# Altium footprint library Cypress.PcbLib: 2 footprints
Each footprint in its own frame and in the unit in brackets; x right, y up, seen from the top. Pads: shape width x height; smd on the part's side, far side on the other; paste and mask are expansions set on the pad; w line width, h text height; cw(c..) or ccw(c..) is an arc to the next point about the centre after c.
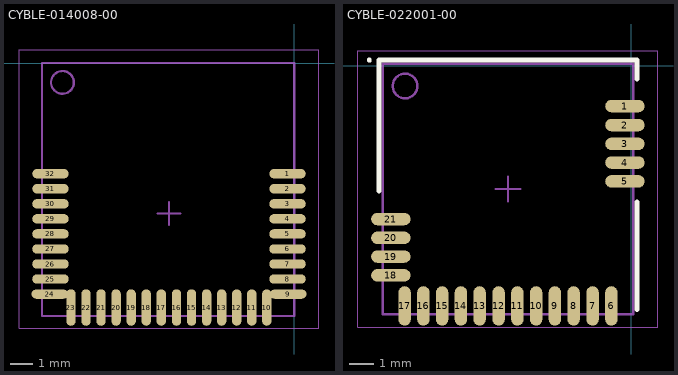
[diagram p0: the footprints below, top view; thin cyan lines are the x and y axes]

## CYBLE-014008-00 [mm] "Cypress Bluetooth Module, CYBLE"
height 1.8
pads (32):
  oval 1.6x0.41 smd: 1(-0.3,-4.855) 2(-0.3,-5.515) 3(-0.3,-6.175) 4(-0.3,-6.835) 5(-0.3,-7.495) 6(-0.3,-8.155) 7(-0.3,-8.815) 8(-0.3,-9.475) 9(-0.27,-10.135) 24(-10.73,-10.135) 25(-10.7,-9.475) 26(-10.7,-8.815) 27(-10.7,-8.155) 28(-10.7,-7.495) 29(-10.7,-6.835) 30(-10.7,-6.175) 31(-10.7,-5.515) 32(-10.7,-4.855)
  oval 0.41x1.6 smd: 10(-1.21,-10.725) 11(-1.87,-10.725) 12(-2.53,-10.725) 13(-3.19,-10.725) 14(-3.85,-10.725) 15(-4.51,-10.725) 16(-5.17,-10.725) 17(-5.84,-10.725) 18(-6.5,-10.725) 19(-7.16,-10.725) 20(-7.82,-10.725) 21(-8.48,-10.725) 22(-9.14,-10.725) 23(-9.8,-10.725)
Mechanical 13:
  circle w0.1: c-10.175,-0.85 r0.5
  lines w0.1: -11.075,-11.1 0,-11.1 0,0 -11.075,0 -11.075,-11.1
Mechanical 15:
  lines w0.05: -12.08,-11.625 1.08,-11.625 1.08,0.575 -12.08,0.575 -12.08,-11.625
  lines w0.1: -6,-6.6 -5,-6.6 ; -5.5,-7.1 -5.5,-6.1
3D body: height 1.8, standoff 0.1, extent -11.15,-11.125 0,0.025

## CYBLE-022001-00 [mm] "SON, 22-Leads, Body 10,00x10,00mm, Pitch 0,76mm, IPC Low Density"
height 1.6
pads (21):
  oval 1.6x0.5 smd: 1(-0.26,-1.64) 2(-0.26,-2.41) 3(-0.26,-3.17) 4(-0.26,-3.93) 5(-0.26,-4.69) 18(-9.75,-8.5) 19(-9.75,-7.74) 20(-9.75,-6.98) 21(-9.75,-6.22)
  oval 0.5x1.6 smd: 6(-0.81,-9.74) 7(-1.57,-9.74) 8(-2.34,-9.74) 9(-3.1,-9.74) 10(-3.86,-9.74) 11(-4.62,-9.74) 12(-5.38,-9.74) 13(-6.15,-9.74) 14(-6.91,-9.74) 15(-7.67,-9.74) 16(-8.43,-9.74) 17(-9.19,-9.74)
Top Overlay:
  circle w0.1: c-10.625,0.225 r0.05
  lines w0.2: -10.225,-5.075 -10.225,0.225 0.225,0.225 0.225,-0.54 ; 0.225,-9.89 0.225,-5.525
Mechanical 13:
  circle w0.1: c-9.175,-0.825 r0.5
  lines w0.1: -10.075,-10.075 0.075,-10.075 0.075,0.075 -10.075,0.075 -10.075,-10.075
Mechanical 15:
  lines w0.05: -11.08,-10.6 1.08,-10.6 1.08,0.6 -11.08,0.6 -11.08,-10.6
  lines w0.1: -5.5,-5 -4.5,-5 ; -5,-5.5 -5,-4.5
3D body: height 1.6, standoff 0.1, extent -10.075,-10.075 0.075,0.075